# Altium schematic symbol library DC-DC_Bridge.SchLib: 1 symbol
Pins are listed as number, name and electrical type; pins without a type are passive.

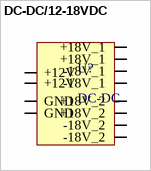
[diagram p0: symbol DC-DC/12-18VDC]

## DC-DC/12-18VDC
designator U?, comment DC-DC
footprint DC-DC_Bridge
pins: 1 +18V_1, 2 +18V_1, 3 -18V_1, 4 -18V_1, 8 +12V, 9 +12V, 10 GND, 11 GND, 15 -18V_2, 16 -18V_2, 17 +18V_2, 18 +18V_2